# EAGLE library part CON-MEZZA-1 (library lib_paul)
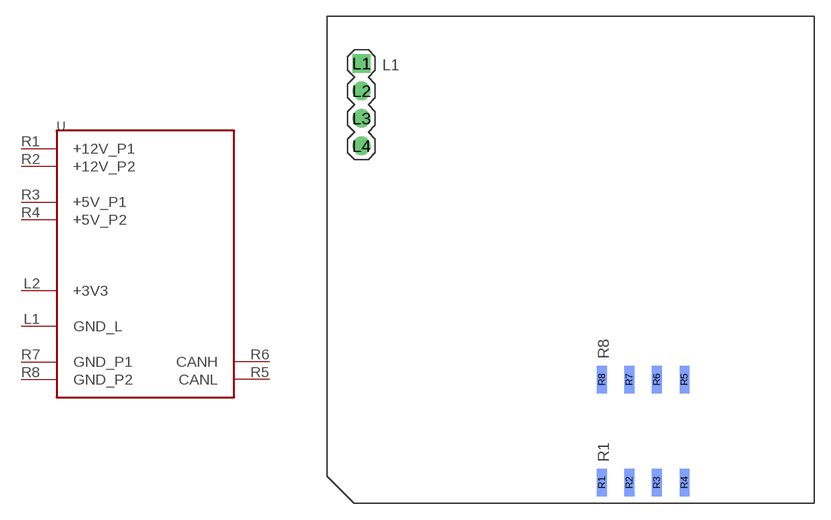
[diagram p24: symbol with the pads of CON-MEZZA-SMD1; footprint CON-MEZZA-SMD1]

Designator prefix -

## CON-MEZZA-1  [CON-MEZZA-SMD1]
L1  GND_L
L2  +3V3
L3  +5V  nc
L4  NC  nc
R1  +12V_P1
R2  +12V_P2
R3  +5V_P1
R4  +5V_P2
R5  CANL
R6  CANH
R7  GND_P1
R8  GND_P2

## Footprint CON-MEZZA-SMD1 (pad centres in mm)
drill 1 pad 1.676 square: L1 3.175,40.64
drill 1 pad 1.676 round: L2 3.175,38.1; L3 3.175,35.56; L4 3.175,33.02
smd 0.914 x 2.54 bottom: R1 25.4,1.905; R2 27.94,1.905; R3 30.48,1.905; R4 33.02,1.905; R5 33.02,11.43; R6 30.48,11.43; R7 27.94,11.43; R8 25.4,11.43